# Altium footprint library Lib1.PcbLib: 47 footprints (part 2 of 3)
Each footprint in its own frame and in the unit in brackets; x right, y up, seen from the top. Pads: shape width x height; smd on the part's side, far side on the other; paste and mask are expansions set on the pad; w line width, h text height; cw(c..) or ccw(c..) is an arc to the next point about the centre after c.
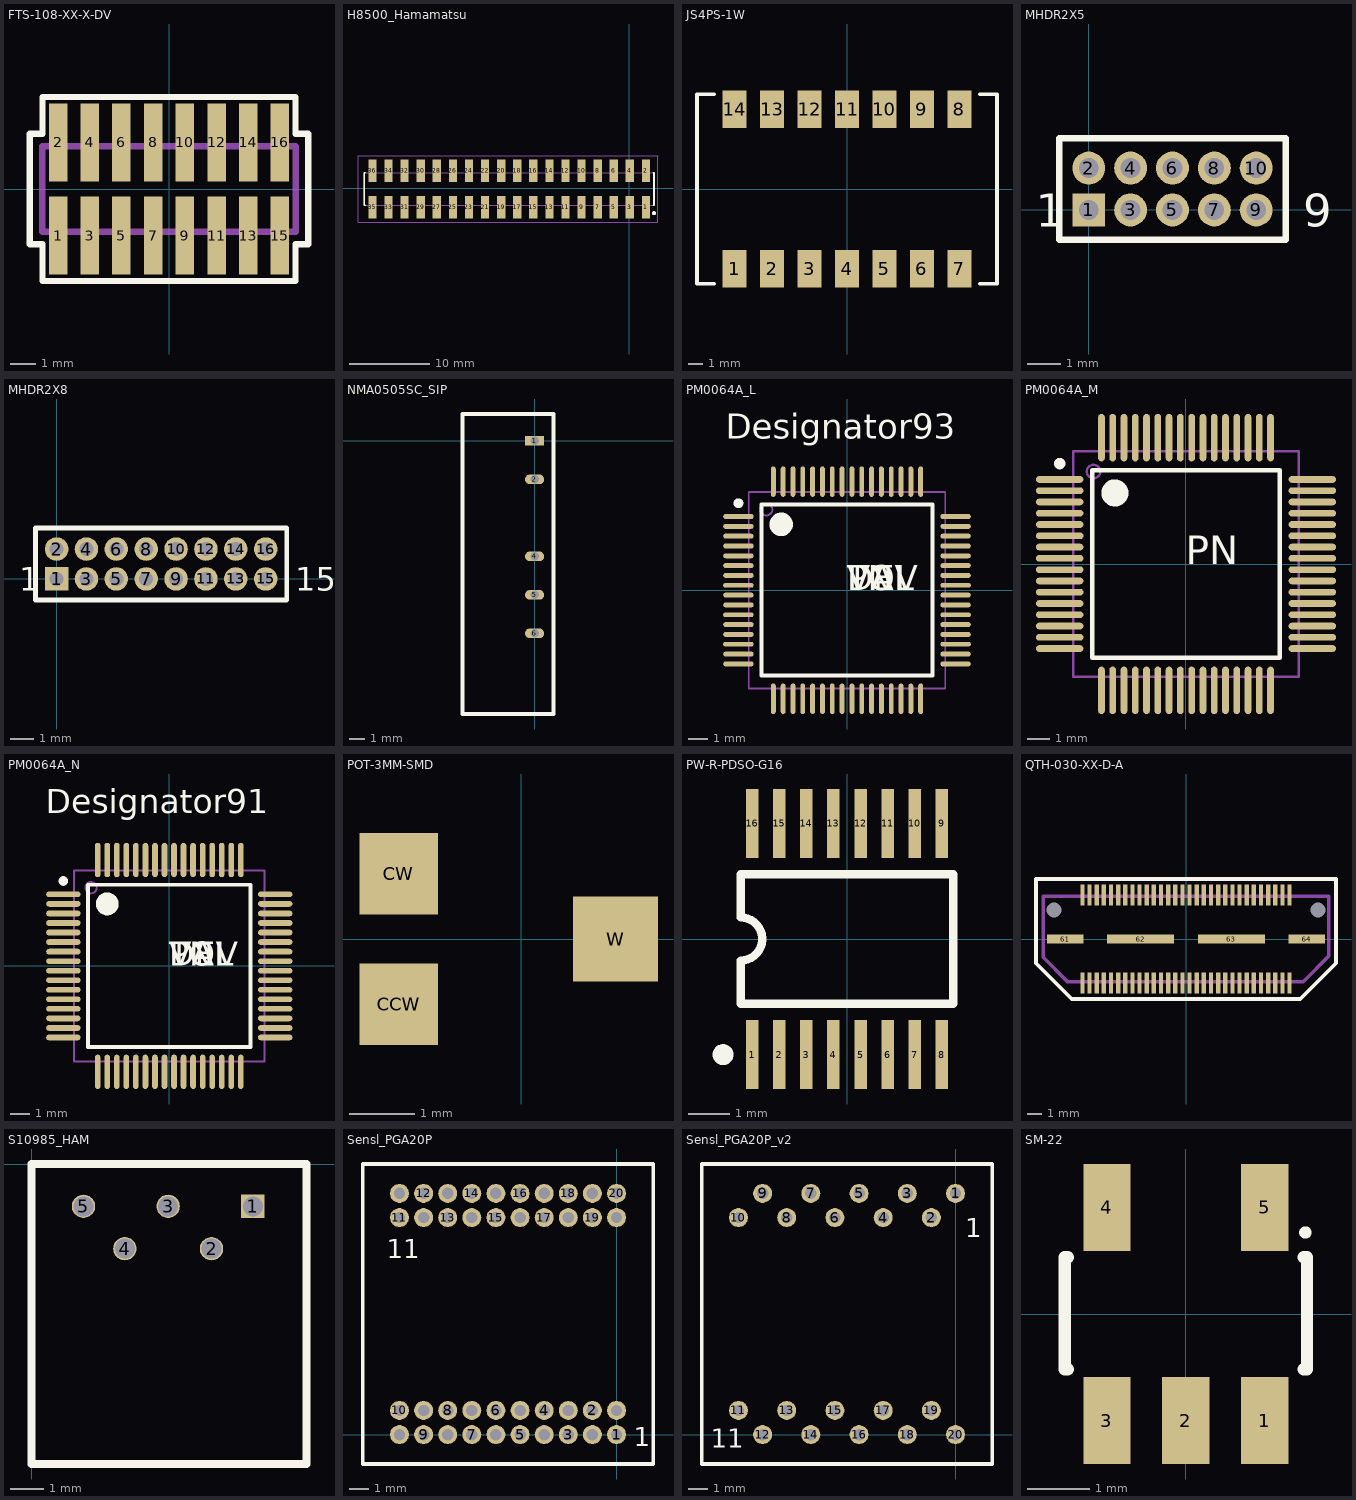
[diagram p1: the footprints below, top view; thin cyan lines are the x and y axes]

## FTS-108-XX-X-DV [mm]
pads (16):
  rect 0.74x3.125 smd mask+0.05: 1(-4.445,-1.867) 2(-4.445,1.867) 3(-3.175,-1.867) 4(-3.175,1.867) 5(-1.905,-1.867) 6(-1.905,1.867) 7(-0.635,-1.867) 8(-0.635,1.867) 9(0.635,-1.867) 10(0.635,1.867) 11(1.905,-1.867) 12(1.905,1.867) 13(3.175,-1.867) 14(3.175,1.867) 15(4.445,-1.867) 16(4.445,1.867)
Top Overlay:
  lines w0.254: -5.58,-2.21 -5.069,-2.21 -5.069,-3.684 5.069,-3.684 5.069,-2.215 5.58,-2.215 5.58,2.215 5.069,2.215 5.069,3.684 -5.069,3.684 -5.069,2.215 -5.58,2.21 -5.58,-2.21
Mechanical 1:
  lines w0.254: -4.445,-2.92 -4.445,-1.715 ; -4.445,1.715 -4.445,2.92 ; -3.175,-2.92 -3.175,-1.715 ; -3.175,1.715 -3.175,2.92 ; -1.905,-2.92 -1.905,-1.715 ; -1.905,1.715 -1.905,2.92 ; -0.635,-2.92 -0.635,-1.715 ; -0.635,1.715 -0.635,2.92 ; 0.635,-2.92 0.635,-1.715 ; 0.635,1.715 0.635,2.92 ; 1.905,-2.92 1.905,-1.715 ; 1.905,1.715 1.905,2.92 ; 3.175,-2.92 3.175,-1.715 ; 3.175,1.715 3.175,2.92 ; 4.445,-2.92 4.445,-1.715 ; 4.445,1.715 4.445,2.92 ; -5.08,-1.715 5.08,-1.715 5.08,1.715 -5.08,1.715 -5.08,-1.715
  text "J1" at 0.232,-5.055 h0.76

## H8500_Hamamatsu [mm]
pads (36):
  rect 1.02x2.77 smd: 1(2.097,-2.384) 2(2.097,2.166) 3(0.097,-2.384) 4(0.097,2.166) 5(-1.903,-2.384) 6(-1.903,2.166) 7(-3.903,-2.384) 8(-3.903,2.166) 9(-5.903,-2.384) 10(-5.903,2.166) 11(-7.903,-2.384) 12(-7.903,2.166) 13(-9.903,-2.384) 14(-9.903,2.166) 15(-11.903,-2.384) 16(-11.903,2.166) 17(-13.903,-2.384) 18(-13.903,2.166) 19(-15.903,-2.384) 20(-15.903,2.166) 21(-17.903,-2.384) 22(-17.903,2.166) 23(-19.903,-2.384) 24(-19.903,2.166) 25(-21.903,-2.384) 26(-21.903,2.166) 27(-23.903,-2.384) 28(-23.903,2.166) 29(-25.903,-2.384) 30(-25.903,2.166) 31(-27.903,-2.384) 32(-27.903,2.166) 33(-29.903,-2.384) 34(-29.903,2.166) 35(-31.903,-2.384) 36(-31.903,2.166)
Top Overlay:
  circle w0.25: c3.097,-3.109 r0.125
  lines w0.2: -32.815,-2.109 -32.905,-2.109 -32.905,-1.109 -32.905,0.891 -32.905,1.891 -32.815,1.891 ; 3.007,-2.109 3.097,-2.109 3.097,1.891 3.007,1.891
Mechanical 13:
  lines w0.1: -32.938,-2.109 3.097,-2.109 3.097,1.923 -32.938,1.923 -32.938,-2.109
Mechanical 15:
  lines w0.1: -33.7,-4.269 3.597,-4.269 3.597,4.051 -33.7,4.051 -33.7,-4.269
3D body: height 3.56, standoff 0, extent -32.938,-2.141 3.097,1.923

## JS4PS-1W [mm]
pads (14):
  rect 1.65x2.54 smd: 1(-7.62,-5.4) 2(-5.08,-5.4) 3(-2.54,-5.4) 4(0,-5.4) 5(2.54,-5.4) 6(5.08,-5.4) 7(7.62,-5.4) 8(7.62,5.4) 9(5.08,5.4) 10(2.54,5.4) 11(0,5.4) 12(-2.54,5.4) 13(-5.08,5.4) 14(-7.62,5.4)
Top Overlay:
  lines w0.254: -9,-6.415 -10.16,-6.415 -10.16,6.415 -9,6.415 ; 9,-6.415 10.16,-6.415 10.16,6.416 9,6.416

## MHDR2X5 [mm] "Connector; Header; 5x2 Position"
pads (10):
  rect 1x1 hole 0.6: 1(0,0)
  round 1 hole 0.6: 2(0,1.27) 3(1.27,0) 4(1.27,1.27) 5(2.54,0) 6(2.54,1.27) 7(3.81,0) 8(3.81,1.27) 9(5.08,0) 10(5.08,1.27)
Top Overlay:
  lines w0.2: -0.9,-0.9 5.98,-0.9 5.98,2.17 -0.9,2.17 -0.9,-0.9
  text "1" at -1.6,-0.508 h1
  text "9" at 6.5,-0.508 h1

## MHDR2X8 [mm] "Connector; Header; 8x2 Position"
pads (16):
  rect 1x1 hole 0.6: 1(0,0)
  round 1 hole 0.6: 2(0,1.27) 3(1.27,0) 4(1.27,1.27) 5(2.54,0) 6(2.54,1.27) 7(3.81,0) 8(3.81,1.27) 9(5.08,0) 10(5.08,1.27) 11(6.35,0) 12(6.35,1.27) 13(7.62,0) 14(7.62,1.27) 15(8.89,0) 16(8.89,1.27)
Top Overlay:
  lines w0.2: -0.9,-0.9 9.79,-0.9 9.79,2.17 -0.9,2.17 -0.9,-0.9
  text "1" at -1.6,-0.508 h1
  text "15" at 10.16,-0.508 h1

## NMA0505SC_SIP [mil]
pads (5):
  rect 50x25 hole 22: 1(0,0)
  oval 50x25 hole 22: 2(0,-100) 4(0,-300) 5(0,-400) 6(0,-500)
Top Overlay:
  lines w10: -187.5,-709.65 -187.5,69.88 49.45,69.88 49.45,-709.65 -187.5,-709.65

## PM0064A_L [mm]
pads (64):
  oval 1.55x0.25 smd paste-0.102 mask+0.051: 1(-5.525,3.75) 2(-5.525,3.25) 3(-5.525,2.75) 4(-5.525,2.25) 5(-5.525,1.75) 6(-5.525,1.25) 7(-5.525,0.75) 8(-5.525,0.25) 9(-5.525,-0.25) 10(-5.525,-0.75) 11(-5.525,-1.25) 12(-5.525,-1.75) 13(-5.525,-2.25) 14(-5.525,-2.75) 15(-5.525,-3.25) 16(-5.525,-3.75) 33(5.525,-3.75) 34(5.525,-3.25) 35(5.525,-2.75) 36(5.525,-2.25) 37(5.525,-1.75) 38(5.525,-1.25) 39(5.525,-0.75) 40(5.525,-0.25) 41(5.525,0.25) 42(5.525,0.75) 43(5.525,1.25) 44(5.525,1.75) 45(5.525,2.25) 46(5.525,2.75) 47(5.525,3.25) 48(5.525,3.75)
  oval 0.25x1.55 smd paste-0.102 mask+0.051: 17(-3.75,-5.525) 18(-3.25,-5.525) 19(-2.75,-5.525) 20(-2.25,-5.525) 21(-1.75,-5.525) 22(-1.25,-5.525) 23(-0.75,-5.525) 24(-0.25,-5.525) 25(0.25,-5.525) 26(0.75,-5.525) 27(1.25,-5.525) 28(1.75,-5.525) 29(2.25,-5.525) 30(2.75,-5.525) 31(3.25,-5.525) 32(3.75,-5.525) 49(3.75,5.525) 50(3.25,5.525) 51(2.75,5.525) 52(2.25,5.525) 53(1.75,5.525) 54(1.25,5.525) 55(0.75,5.525) 56(0.25,5.525) 57(-0.25,5.525) 58(-0.75,5.525) 59(-1.25,5.525) 60(-1.75,5.525) 61(-2.25,5.525) 62(-2.75,5.525) 63(-3.25,5.525) 64(-3.75,5.525)
Top Overlay:
  circle w0.25: c-5.525,4.425 r0.125
  circle w0.6: c-3.35,3.35 r0.3
  lines w0.2: -4.35,-4.35 -4.35,4.35 4.35,4.35 4.35,-4.35 -4.35,-4.35
  text "Designator93" at -6.172,7.696 h1.27
  text "TOL" at 0,0 h1.27
  text "VAL" at 0,0 h1.27
  text "PN" at 0,0 h1.27
  text "DEV" at 0,0 h1.27
Mechanical 1:
  circle w0.1: c-4.1,4.1 r0.3
  lines w0.1: -5,-5 -5,5 5,5 5,-5 -5,-5
  text ".Designator" at -1.854,-0.508 h1.27

## PM0064A_M [mm]
pads (64):
  oval 2.1x0.3 smd paste-0.102 mask+0.051: 1(-5.6,3.75) 2(-5.6,3.25) 3(-5.6,2.75) 4(-5.6,2.25) 5(-5.6,1.75) 6(-5.6,1.25) 7(-5.6,0.75) 8(-5.6,0.25) 9(-5.6,-0.25) 10(-5.6,-0.75) 11(-5.6,-1.25) 12(-5.6,-1.75) 13(-5.6,-2.25) 14(-5.6,-2.75) 15(-5.6,-3.25) 16(-5.6,-3.75) 33(5.6,-3.75) 34(5.6,-3.25) 35(5.6,-2.75) 36(5.6,-2.25) 37(5.6,-1.75) 38(5.6,-1.25) 39(5.6,-0.75) 40(5.6,-0.25) 41(5.6,0.25) 42(5.6,0.75) 43(5.6,1.25) 44(5.6,1.75) 45(5.6,2.25) 46(5.6,2.75) 47(5.6,3.25) 48(5.6,3.75)
  oval 0.3x2.1 smd paste-0.102 mask+0.051: 17(-3.75,-5.6) 18(-3.25,-5.6) 19(-2.75,-5.6) 20(-2.25,-5.6) 21(-1.75,-5.6) 22(-1.25,-5.6) 23(-0.75,-5.6) 24(-0.25,-5.6) 25(0.25,-5.6) 26(0.75,-5.6) 27(1.25,-5.6) 28(1.75,-5.6) 29(2.25,-5.6) 30(2.75,-5.6) 31(3.25,-5.6) 32(3.75,-5.6) 49(3.75,5.6) 50(3.25,5.6) 51(2.75,5.6) 52(2.25,5.6) 53(1.75,5.6) 54(1.25,5.6) 55(0.75,5.6) 56(0.25,5.6) 57(-0.25,5.6) 58(-0.75,5.6) 59(-1.25,5.6) 60(-1.75,5.6) 61(-2.25,5.6) 62(-2.75,5.6) 63(-3.25,5.6) 64(-3.75,5.6)
Top Overlay:
  circle w0.6: c-3.15,3.15 r0.3
  circle w0.25: c-5.6,4.45 r0.125
  lines w0.2: -4.15,-4.15 4.15,-4.15 4.15,4.15 -4.15,4.15 -4.15,-4.15
  text "PN" at 0,0 h1.27
Mechanical 1:
  circle w0.1: c-4.1,4.1 r0.3
  lines w0.1: -5,-5 5,-5 5,5 -5,5 -5,-5

## PM0064A_N [mm]
pads (64):
  oval 1.8x0.3 smd paste-0.102 mask+0.051: 1(-5.55,3.75) 2(-5.55,3.25) 3(-5.55,2.75) 4(-5.55,2.25) 5(-5.55,1.75) 6(-5.55,1.25) 7(-5.55,0.75) 8(-5.55,0.25) 9(-5.55,-0.25) 10(-5.55,-0.75) 11(-5.55,-1.25) 12(-5.55,-1.75) 13(-5.55,-2.25) 14(-5.55,-2.75) 15(-5.55,-3.25) 16(-5.55,-3.75) 33(5.55,-3.75) 34(5.55,-3.25) 35(5.55,-2.75) 36(5.55,-2.25) 37(5.55,-1.75) 38(5.55,-1.25) 39(5.55,-0.75) 40(5.55,-0.25) 41(5.55,0.25) 42(5.55,0.75) 43(5.55,1.25) 44(5.55,1.75) 45(5.55,2.25) 46(5.55,2.75) 47(5.55,3.25) 48(5.55,3.75)
  oval 0.3x1.8 smd paste-0.102 mask+0.051: 17(-3.75,-5.55) 18(-3.25,-5.55) 19(-2.75,-5.55) 20(-2.25,-5.55) 21(-1.75,-5.55) 22(-1.25,-5.55) 23(-0.75,-5.55) 24(-0.25,-5.55) 25(0.25,-5.55) 26(0.75,-5.55) 27(1.25,-5.55) 28(1.75,-5.55) 29(2.25,-5.55) 30(2.75,-5.55) 31(3.25,-5.55) 32(3.75,-5.55) 49(3.75,5.55) 50(3.25,5.55) 51(2.75,5.55) 52(2.25,5.55) 53(1.75,5.55) 54(1.25,5.55) 55(0.75,5.55) 56(0.25,5.55) 57(-0.25,5.55) 58(-0.75,5.55) 59(-1.25,5.55) 60(-1.75,5.55) 61(-2.25,5.55) 62(-2.75,5.55) 63(-3.25,5.55) 64(-3.75,5.55)
Top Overlay:
  circle w0.25: c-5.55,4.45 r0.125
  circle w0.6: c-3.25,3.25 r0.3
  lines w0.2: -4.25,-4.25 -4.25,4.25 4.25,4.25 4.25,-4.25 -4.25,-4.25
  text "DEV" at 0,0 h1.27
  text "PN" at 0,0 h1.27
  text "VAL" at 0,0 h1.27
  text "TOL" at 0,0 h1.27
  text "Designator91" at -6.477,8.001 h1.27
Mechanical 1:
  circle w0.1: c-4.1,4.1 r0.3
  lines w0.1: -5,-5 -5,5 5,5 5,-5 -5,-5
  text ".Designator" at -1.854,-0.508 h1.27

## POT-3MM-SMD [mm] "Square Trimming Potentiometer"
pads (3):
  rect 1.2x1.25 smd: CCW(-1.875,-1) CW(-1.875,1)
  rect 1.3x1.3 smd: W(1.45,0)

## PW-R-PDSO-G16 [mm]
pads (16):
  rect 0.3x1.65 smd: 1(-2.275,-2.775) 2(-1.625,-2.775) 3(-0.975,-2.775) 4(-0.325,-2.775) 5(0.325,-2.775) 6(0.975,-2.775) 7(1.625,-2.775) 8(2.275,-2.775) 9(2.275,2.775) 10(1.625,2.775) 11(0.975,2.775) 12(0.325,2.775) 13(-0.325,2.775) 14(-0.975,2.775) 15(-1.625,2.775) 16(-2.275,2.775)
Top Overlay:
  circle w0.25: c-2.975,-2.775 r0.125
  lines w0.2: -2.55,-1.55 2.55,-1.55 2.55,1.55 -2.55,1.55 -2.55,0.517 cw(c-2.55,0) -2.55,-0.517 -2.55,-1.55

## QTH-030-XX-D-A [mm]
pads (66):
  rect 0.3x1.45 smd mask+0.05: 1(-7.25,3.085) 2(-7.25,-3.085) 3(-6.75,3.085) 4(-6.75,-3.085) 5(-6.25,3.085) 6(-6.25,-3.085) 7(-5.75,3.085) 8(-5.75,-3.085) 9(-5.25,3.085) 10(-5.25,-3.085) 11(-4.75,3.085) 12(-4.75,-3.085) 13(-4.25,3.085) 14(-4.25,-3.085) 15(-3.75,3.085) 16(-3.75,-3.085) 17(-3.25,3.085) 18(-3.25,-3.085) 19(-2.75,3.085) 20(-2.75,-3.085) 21(-2.25,3.085) 22(-2.25,-3.085) 23(-1.75,3.085) 24(-1.75,-3.085) 25(-1.25,3.085) 26(-1.25,-3.085) 27(-0.75,3.085) 28(-0.75,-3.085) 29(-0.25,3.085) 30(-0.25,-3.085) 31(0.25,3.085) 32(0.25,-3.085) 33(0.75,3.085) 34(0.75,-3.085) 35(1.25,3.085) 36(1.25,-3.085) 37(1.75,3.085) 38(1.75,-3.085) 39(2.25,3.085) 40(2.25,-3.085) 41(2.75,3.085) 42(2.75,-3.085) 43(3.25,3.085) 44(3.25,-3.085) 45(3.75,3.085) 46(3.75,-3.085) 47(4.25,3.085) 48(4.25,-3.085) 49(4.75,3.085) 50(4.75,-3.085) 51(5.25,3.085) 52(5.25,-3.085) 53(5.75,3.085) 54(5.75,-3.085) 55(6.25,3.085) 56(6.25,-3.085) 57(6.75,3.085) 58(6.75,-3.085) 59(7.25,3.085) 60(7.25,-3.085)
  rect 2.54x0.64 smd mask+0.05: 61(-8.445,0) 64(8.445,0)
  rect 4.7x0.64 smd mask+0.05: 62(-3.175,0) 63(3.175,0)
  round 0 hole 1.02 unplated: 65(-9.24,2.03) 66(9.24,2.03)
Top Overlay:
  lines w0.254: -10.5,-1.7 -8,-4.2 8,-4.2 10.5,-1.7 10.5,4.2 -10.5,4.2 -10.5,-1.7
Mechanical 1:
  lines w0.254: -10,-1.285 -8.3,-2.985 8.2,-2.985 10,-1.185 10,2.985 -10,2.985 -10,-1.285
  text "J1" at -0.446,-0.457 h0.76

## S10985_HAM [mm]
pads (5):
  rect 0.7x0.7 hole 0.6: 1(6.64,-1.27)
  round 0.7 hole 0.6: 2(5.4,-2.54) 3(4.1,-1.27) 4(2.8,-2.54) 5(1.56,-1.27)
Top Overlay:
  lines w0.254: 0,-9 0,0 8.25,0 8.25,-9 0,-9

## Sensl_PGA20P [mm]
pads (40):
  round 1 hole 0.6: 1(0,0) 2(-1.27,1.27) 3(-2.54,0) 4(-3.81,1.27) 5(-5.08,0) 6(-6.35,1.27) 7(-7.62,0) 8(-8.89,1.27) 9(-10.16,0) 10(-11.43,1.27) 11(-11.43,11.43) 12(-10.16,12.7) 13(-8.89,11.43) 14(-7.62,12.7) 15(-6.35,11.43) 16(-5.08,12.7) 17(-3.81,11.43) 18(-2.54,12.7) 19(-1.27,11.43) 20(0,12.7) ""(-11.43,0) ""(-11.43,12.7) ""(-10.16,1.27) ""(-10.16,11.43) ""(-8.89,0) ""(-8.89,12.7) ""(-7.62,1.27) ""(-7.62,11.43) ""(-6.35,0) ""(-6.35,12.7) ""(-5.08,1.27) ""(-5.08,11.43) ""(-3.81,0) ""(-3.81,12.7) ""(-2.54,1.27) ""(-2.54,11.43) ""(-1.27,0) ""(-1.27,12.7) ""(0,1.27) ""(0,11.43)
Top Overlay:
  lines w0.2: -13.37,-1.55 1.94,-1.55 1.94,14.25 -13.37,14.25 -13.37,-1.55
  text "1" at 0.895,-0.613 h1
  text "11" at -12.105,9.287 h1

## Sensl_PGA20P_v2 [mm]
pads (20):
  round 1 hole 0.6: 1(0,12.7) 2(-1.27,11.43) 3(-2.54,12.7) 4(-3.81,11.43) 5(-5.08,12.7) 6(-6.35,11.43) 7(-7.62,12.7) 8(-8.89,11.43) 9(-10.16,12.7) 10(-11.43,11.43) 11(-11.43,1.27) 12(-10.16,0) 13(-8.89,1.27) 14(-7.62,0) 15(-6.35,1.27) 16(-5.08,0) 17(-3.81,1.27) 18(-2.54,0) 19(-1.27,1.27) 20(0,0)
Top Overlay:
  lines w0.2: -13.37,-1.55 -13.37,14.25 1.94,14.25 1.94,-1.55 -13.37,-1.55
  text "11" at -12.9,-0.687 h1
  text "1" at 0.513,10.388 h1

## SM-22 [mm] "SOT-23/SC-74A; 5 Leads; Body 3 x 3 mm, inc. leads (LxW max)"
height 1.45
pads (5):
  rect 0.76x1.4 smd: 1(1.27,-1.715) 2(0,-1.715) 3(-1.27,-1.715) 4(-1.27,1.715) 5(1.27,1.715)
Top Overlay:
  circle w0.1: c1.925,1.312 r0.05
  lines w0.2: -1.9,-0.888 -1.95,-0.888 -1.95,0.913 -1.9,0.913 ; 1.9,-0.888 1.95,-0.888 1.95,0.913 1.9,0.913